# Altium footprint library FootPrintLib_6.PcbLib: 588 footprints (part 13 of 37)
Each footprint in its own frame and in the unit in brackets; x right, y up, seen from the top. Pads: shape width x height; smd on the part's side, far side on the other; paste and mask are expansions set on the pad; w line width, h text height; cw(c..) or ccw(c..) is an arc to the next point about the centre after c.
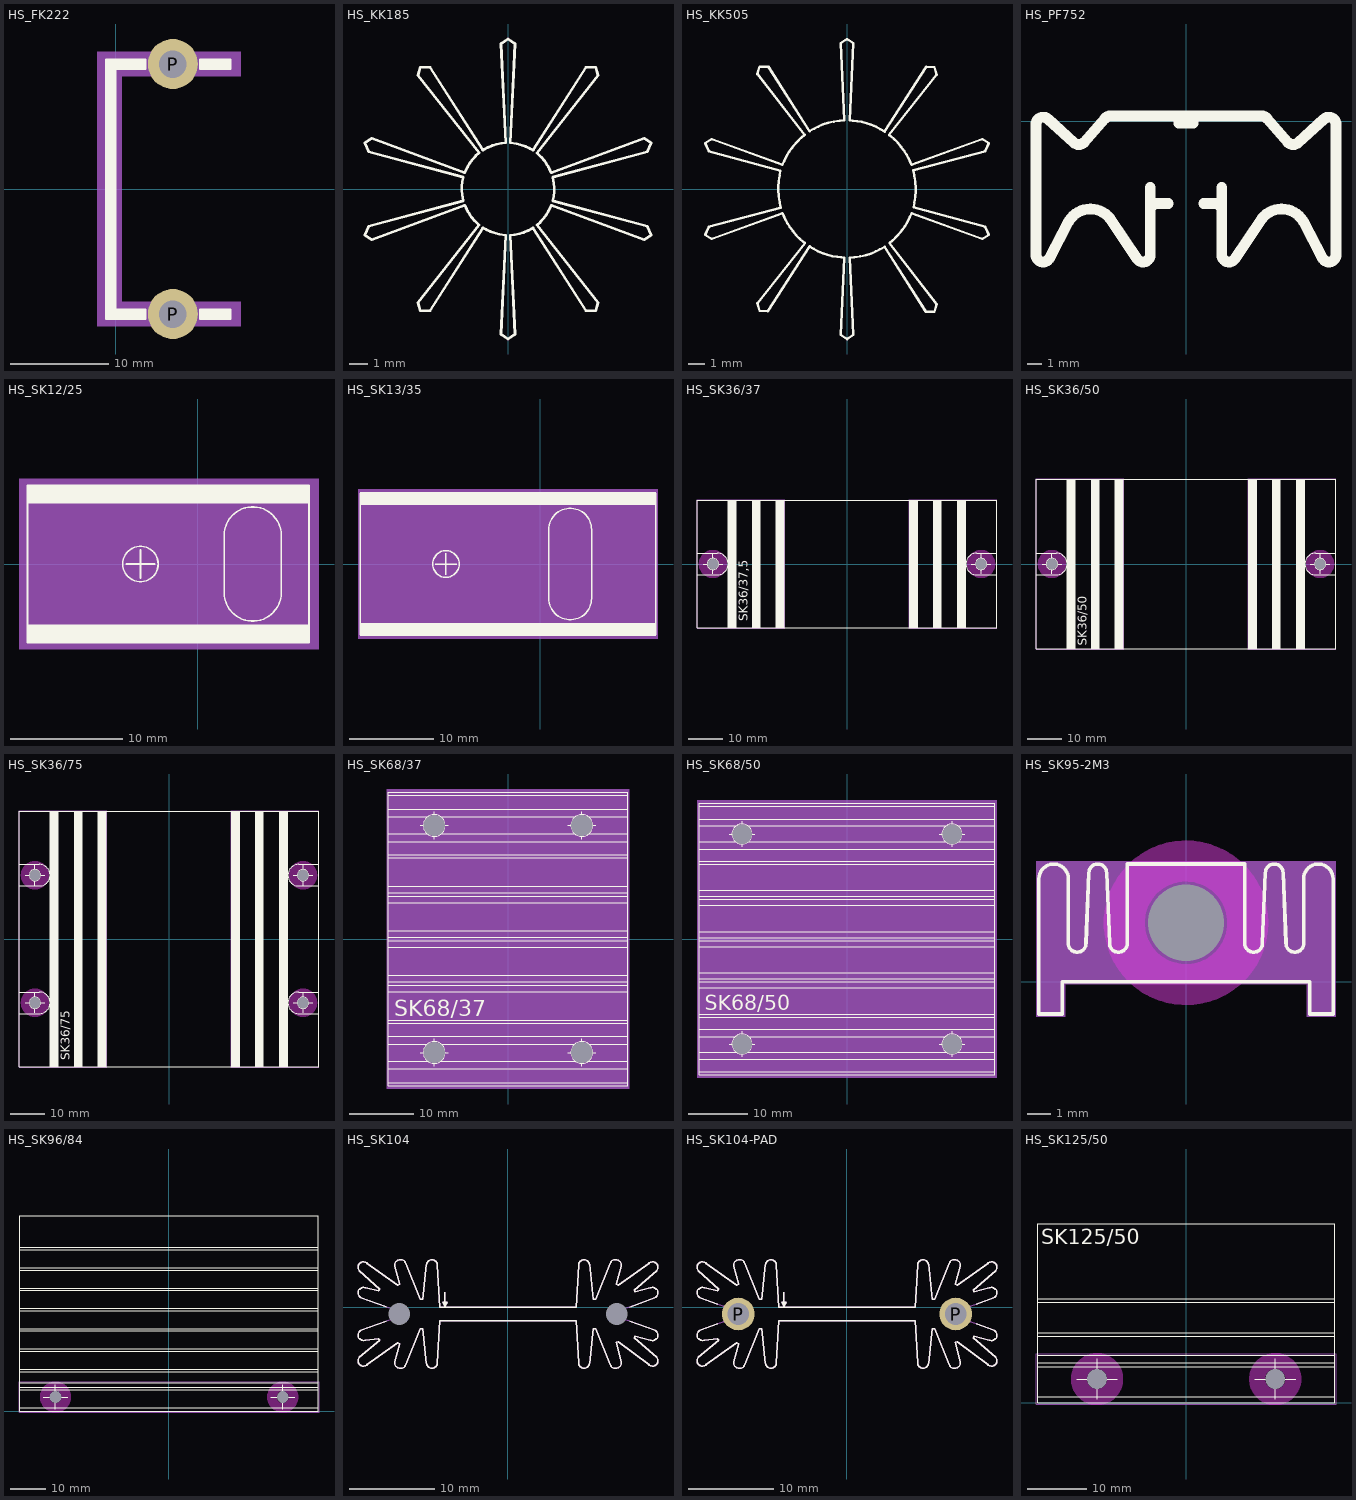
[diagram p12: the footprints below, top view; thin cyan lines are the x and y axes]

## HS_FK222 [mil]
pads (2):
  round 200 hole 110: P(228,-500) P(228,500)
Top Overlay:
  rectangle: -40,480 120,520
  rectangle: 335,480 460,520
  rectangle: 335,-520 460,-480
  rectangle: -40,-520 120,-480
  rectangle: -40,-480 0,480
  lines w6: -40,-520 120,-520 120,-480 0,-480 0,480 120,480 120,520 -40,520 -40,-520 ; 335,-520 460,-520 460,-480 335,-480 335,-520 ; 335,480 335,520 460,520 460,480 335,480
Mechanical 1:
  rectangle: -75,450 500,550
  rectangle: -75,-550 25,550
  rectangle: -75,-550 500,-450
Mechanical 2:
  rectangle: -40,-480 0,480
  rectangle: 120,-520 335,-480
  rectangle: -40,-520 120,-480
  rectangle: 335,-520 460,-480
  rectangle: 335,480 460,520
  rectangle: 120,480 335,520
  rectangle: -40,480 120,520
  lines w6: 120,-520 -40,-520 -40,520 120,520 ; 120,-520 120,-480 ; 120,-520 335,-520 ; 120,-480 0,-480 0,480 120,480 ; 120,-480 335,-480 ; 120,480 120,520 ; 120,480 335,480 ; 120,520 335,520 ; 335,-520 335,-480 ; 335,-520 460,-520 460,-480 335,-480 ; 335,480 460,480 460,520 335,520 ; 335,480 335,520

## HS_KK185 [mm]
Top Overlay:
  lines w0.152: -2.489,-0.66 -7.671,-2.057 -7.874,-2.54 -7.493,-2.794 -2.388,-0.889 ; -2.489,0.66 -7.671,2.057 -7.874,2.54 -7.493,2.794 -2.388,0.889 -2.235,1.194 -2.108,1.422 -1.93,1.651 -1.778,1.829 -1.6,1.981 ; -2.464,-0.635 -2.515,-0.33 -2.54,-0.076 -2.54,0.152 -2.515,0.406 -2.464,0.635 ; -2.362,-0.914 -2.311,-1.041 -2.235,-1.194 -2.108,-1.397 -2.007,-1.549 -1.854,-1.727 -1.6,-1.981 -4.953,-6.248 -4.826,-6.706 -4.293,-6.706 -1.397,-2.159 ; -1.6,2.007 -4.953,6.248 -4.826,6.706 -4.293,6.706 -1.397,2.159 ; -1.372,-2.134 -1.194,-2.235 -0.991,-2.337 -0.762,-2.413 -0.483,-2.489 -0.127,-2.54 -0.381,-8.001 0,-8.255 0.381,-8.001 0.127,-2.54 0.356,-2.515 0.635,-2.464 0.864,-2.388 1.118,-2.286 1.295,-2.184 1.372,-2.134 4.293,-6.706 4.826,-6.706 4.953,-6.248 1.6,-1.981 1.778,-1.829 1.93,-1.651 2.108,-1.422 2.235,-1.194 2.388,-0.889 7.493,-2.794 7.874,-2.54 7.671,-2.057 2.489,-0.66 ; -1.372,2.134 -1.295,2.184 -1.118,2.286 -0.864,2.388 -0.635,2.464 -0.356,2.515 -0.127,2.54 -0.381,8.001 0,8.255 0.381,8.001 0.127,2.54 0.483,2.489 0.762,2.413 0.991,2.337 1.194,2.235 1.372,2.134 ; 1.397,2.159 4.293,6.706 4.826,6.706 4.953,6.248 1.6,1.981 1.854,1.727 2.007,1.549 2.108,1.397 2.235,1.194 2.311,1.041 2.362,0.914 ; 2.388,0.889 7.493,2.794 7.874,2.54 7.671,2.057 2.489,0.66 ; 2.464,-0.635 2.515,-0.406 2.54,-0.152 2.54,0.076 2.515,0.33 2.464,0.635

## HS_KK505 [mm]
Top Overlay:
  lines w0.152: -8.636,-2.794 -8.433,-2.311 -4.039,-1.143 -4.064,-1.016 -4.115,-0.787 -4.166,-0.432 -4.191,-0.051 -4.191,0.152 -4.166,0.457 -4.115,0.813 -4.064,1.118 -8.433,2.311 -8.636,2.794 -8.255,3.048 -3.937,1.473 -3.835,1.702 -3.708,1.956 -3.531,2.261 -3.277,2.616 -3.048,2.87 -2.794,3.124 -2.591,3.302 -5.461,7.01 -5.334,7.468 -4.801,7.468 -2.286,3.531 -2.007,3.683 -1.753,3.81 -1.448,3.937 -1.143,4.039 -0.813,4.115 -0.432,4.166 -0.178,4.191 -0.381,8.89 0,9.144 0.381,8.89 0.178,4.191 0.356,4.166 0.61,4.14 0.889,4.089 1.194,4.013 1.473,3.912 1.778,3.785 2.032,3.658 2.286,3.505 4.826,7.442 5.334,7.417 5.461,6.96 2.565,3.302 2.845,3.073 3.099,2.819 3.302,2.565 3.48,2.337 3.632,2.083 3.759,1.854 3.861,1.626 3.937,1.473 8.255,3.048 8.636,2.794 8.433,2.311 4.039,1.143 4.064,1.016 4.115,0.787 4.166,0.432 4.191,0.051 4.191,-0.152 4.166,-0.457 4.115,-0.813 4.064,-1.118 8.433,-2.311 8.636,-2.794 8.255,-3.048 3.937,-1.473 3.835,-1.702 3.708,-1.956 3.531,-2.261 3.277,-2.616 3.048,-2.87 2.794,-3.124 2.591,-3.302 5.461,-7.01 5.334,-7.468 4.801,-7.468 2.286,-3.531 2.007,-3.683 1.753,-3.81 1.448,-3.937 1.143,-4.039 0.813,-4.115 0.432,-4.166 0.178,-4.191 0.381,-8.89 0,-9.144 -0.381,-8.89 -0.178,-4.191 -0.356,-4.166 -0.61,-4.14 -0.889,-4.089 -1.194,-4.013 -1.473,-3.912 -1.778,-3.785 -2.032,-3.658 -2.286,-3.505 -4.826,-7.442 -5.334,-7.417 -5.461,-6.96 -2.565,-3.302 -2.845,-3.073 -3.099,-2.819 -3.302,-2.565 -3.48,-2.337 -3.632,-2.083 -3.759,-1.854 -3.861,-1.626 -3.937,-1.473 -8.255,-3.048 -8.636,-2.794

## HS_PF752 [mm]
Top Overlay:
  lines w0.762: -9.801,0.148 ccw(c-10.16,-0.211) -10.668,-0.211 -10.668,-9.497 ccw(c-10.16,-9.497) -9.737,-9.779 -8.326,-7.084 ; -9.801,0.15 -7.979,-1.501 ; -8.326,-7.085 cw(c-6.808,-8.011) -5.406,-6.918 ; -7.979,-1.502 ccw(c-7.62,-1.143) -7.261,-1.502 ; -7.261,-1.501 -5.755,0.208 cw(c-5.373,-0.127) -5.374,0.381 5.374,0.381 cw(c5.374,-0.127) 5.755,0.209 7.261,-1.501 ; -5.406,-6.916 -3.471,-9.779 ccw(c-3.048,-9.497) -2.54,-9.497 -2.54,-4.699 ; -2.54,-6.35 cw(c-2.032,-6.35) -2.032,-5.842 -1.27,-5.842 ; -0.508,0.254 -0.508,-0.127 0.508,-0.127 0.508,0.254 ; 1.27,-5.842 2.032,-5.842 cw(c2.032,-6.35) 2.54,-6.35 ; 2.54,-4.699 2.54,-9.497 ccw(c3.048,-9.497) 3.471,-9.779 5.406,-6.916 ; 5.406,-6.918 cw(c6.808,-8.011) 8.326,-7.085 ; 7.261,-1.502 ccw(c7.62,-1.143) 7.979,-1.502 ; 7.979,-1.501 9.801,0.15 ; 8.326,-7.084 9.737,-9.779 ccw(c10.16,-9.497) 10.668,-9.497 10.668,-0.211 ccw(c10.16,-0.211) 9.801,0.148

## HS_SK12/25 [mm]
Top Overlay:
  circle w0.152: c-5.08,0 r1.575
  rectangle: -15.113,5.461 9.906,6.985
  rectangle: -15.113,-6.985 9.906,-5.461
  lines w0.152: -6.35,0 -3.81,0 ; -5.08,-1.27 -5.08,1.27 ; 2.362,2.515 2.362,-2.54 ccw(c4.902,-2.54) 7.442,-2.54 7.442,2.515 ; 2.362,2.54 cw(c4.902,2.54) 7.442,2.54 ; -15.113,-5.461 -15.113,-6.985 9.906,-6.985 9.906,-5.461 ; -15.113,-5.461 9.906,-5.461 ; -15.113,-5.461 -15.113,5.461 ; -15.113,5.461 -15.113,6.985 9.906,6.985 9.906,5.461 ; -15.113,5.461 9.906,5.461 ; 9.906,-5.461 9.906,5.461
Mechanical 1:
  rectangle: -15.875,-7.62 10.795,7.62

## HS_SK13/35 [mm]
Top Overlay:
  circle w0.152: c-11.176,0 r1.575
  rectangle: -21.336,6.985 13.716,8.509
  rectangle: -21.336,-8.509 13.716,-6.985
  lines w0.152: -21.336,-8.382 -21.336,8.382 ; -12.446,0 -9.906,0 ; -11.176,-1.27 -11.176,1.27 ; 13.716,-8.382 13.716,8.382 ; 1.016,-4.064 ccw(c3.556,-4.064) 6.096,-4.064 6.096,4.064 ccw(c3.556,4.064) 1.016,4.064 1.016,-4.064
Mechanical 1:
  rectangle: -21.59,-8.89 13.97,8.89

## HS_SK36/37 [mil]
pads (2):
  round 0 hole 130 unplated: MH(-1555,0) MH(1555,0)
Top Overlay:
  circle w6: c1555,0 r65
  circle w6: c-1555,0 r65
  rectangle: 1285,-739.97 1375,740
  rectangle: 1005,-739.97 1095,740
  rectangle: 730,-739.97 820,740
  rectangle: -820,-739.97 -730,740
  rectangle: -1095,-739.97 -1005,740
  rectangle: -1375,-739.97 -1285,740
  lines w6: -1665,0 -1440,0 ; -1555,-115 -1555,115 ; 1440,0 1665,0 ; 1555,-115 1555,115 ; -1735,-125 -1505,-125 ccw(c-1505,0) -1505,125 -1735,125 ; -1735,-125 -1735,125 ; -1735,-125 -1735,-739.97 -1375,-739.97 ; -1735,125 -1735,740 -1375,740 ; -1375,-739.97 -1375,740 ; -1375,-739.97 -1285,-739.97 ; -1375,740 -1285,740 ; -1285,-739.97 -1285,740 ; -1285,-739.97 -1095,-739.97 ; -1285,740 -1095,740 ; -1095,-739.97 -1095,740 ; -1095,-739.97 -1005,-739.97 ; -1095,740 -1005,740 ; -1005,-739.97 -1005,740 ; -1005,-739.97 -820,-739.97 ; -1005,740 -820,740 ; -820,-739.97 -820,740 ; -820,-739.97 -730,-739.97 ; -820,740 -730,740 ; -730,-739.97 -730,740 ; -730,-739.97 730,-739.97 ; -730,740 730,740 ; 730,-739.97 730,740 ; 730,-739.97 820,-739.97 ; 730,740 820,740 ; 820,-739.97 820,740 ; 820,-739.97 1005,-739.97 ; 820,740 1005,740 ; 1005,-739.97 1005,740 ; 1005,-739.97 1095,-739.97 ; 1005,740 1095,740 ; 1095,-739.97 1095,740 ; 1095,-739.97 1285,-739.97 ; 1095,740 1285,740 ; 1285,-739.97 1285,740 ; 1285,-739.97 1375,-739.97 ; 1285,740 1375,740 ; 1375,-739.97 1375,740 ; 1375,-739.97 1735,-739.97 1735,-125 ; 1375,740 1735,740 1735,125 ; 1735,-125 1505,-125 cw(c1505,0) 1505,125 1735,125 ; 1735,-125 1735,125
  text "SK36/37,5" at -1150,-664.97 h100
Keep-Out Layer:
  circle w100: c1555,0 r115
  circle w100: c-1555,0 r115
Mechanical 2:
  lines w5: -1740,-744.97 -725,-744.97 -725,745 -1740,745 -1740,-744.97 ; 725,-744.97 1740,-744.97 1740,745 725,745 725,-744.97

## HS_SK36/50 [mil]
pads (2):
  round 0 hole 130 unplated: MH(-1555,0) MH(1555,0)
Top Overlay:
  circle w6: c1555,0 r65
  circle w6: c-1555,0 r65
  rectangle: 1285,-985 1375,985
  rectangle: 1005,-985 1095,985
  rectangle: 730,-985 820,985
  rectangle: -820,-985 -730,985
  rectangle: -1095,-985 -1005,985
  rectangle: -1375,-985 -1285,985
  lines w6: -1665,0 -1440,0 ; -1555,-115 -1555,115 ; 1440,0 1665,0 ; 1555,-115 1555,115 ; -1735,-125 -1505,-125 ccw(c-1505,0) -1505,125 -1735,125 ; -1735,-125 -1735,125 ; -1735,-125 -1735,-985 -1375,-985 ; -1735,125 -1735,985 -1375,985 ; -1375,-985 -1375,985 ; -1375,-985 -1285,-985 ; -1375,985 -1285,985 ; -1285,-985 -1285,985 ; -1285,-985 -1095,-985 ; -1285,985 -1095,985 ; -1095,-985 -1095,985 ; -1095,-985 -1005,-985 ; -1095,985 -1005,985 ; -1005,-985 -1005,985 ; -1005,-985 -820,-985 ; -1005,985 -820,985 ; -820,-985 -820,985 ; -820,-985 -730,-985 ; -820,985 -730,985 ; -730,-985 -730,985 ; -730,-985 730,-985 ; -730,985 730,985 ; 730,-985 730,985 ; 730,-985 820,-985 ; 730,985 820,985 ; 820,-985 820,985 ; 820,-985 1005,-985 ; 820,985 1005,985 ; 1005,-985 1005,985 ; 1005,-985 1095,-985 ; 1005,985 1095,985 ; 1095,-985 1095,985 ; 1095,-985 1285,-985 ; 1095,985 1285,985 ; 1285,-985 1285,985 ; 1285,-985 1375,-985 ; 1285,985 1375,985 ; 1375,-985 1375,985 ; 1375,-985 1735,-985 1735,-125 ; 1375,985 1735,985 1735,125 ; 1735,-125 1505,-125 cw(c1505,0) 1505,125 1735,125 ; 1735,-125 1735,125
  text "SK36/50" at -1150,-950 h100
Keep-Out Layer:
  circle w100: c1555,0 r115
  circle w100: c-1555,0 r115
Mechanical 2:
  lines w5: -1740,-990 -725,-990 -725,990 -1740,990 -1740,-990 ; 725,-990 725,990 1740,990 1740,-990 725,-990

## HS_SK36/75 [mil]
pads (4):
  round 0 hole 130 unplated: MH(-1555,-740) MH(-1555,740) MH(1555,-740) MH(1555,740)
Top Overlay:
  circle w6: c-1555,740 r65
  circle w6: c1555,740 r65
  circle w6: c-1555,-740 r65
  circle w6: c1555,-740 r65
  rectangle: -1375,-1480 -1285,1480
  rectangle: -1095,-1480 -1005,1480
  rectangle: -820,-1480 -730,1480
  rectangle: 730,-1480 820,1480
  rectangle: 1005,-1480 1095,1480
  rectangle: 1285,-1480 1375,1480
  lines w6: -1665,-740 -1440,-740 ; -1665,740 -1440,740 ; -1555,-855 -1555,-625 ; -1555,625 -1555,855 ; 1440,-740 1665,-740 ; 1440,740 1665,740 ; 1555,-855 1555,-625 ; 1555,625 1555,855 ; -1735,-865 -1735,-1480 -1375,-1480 ; -1735,-865 -1735,-615 ; -1735,-865 -1505,-865 ccw(c-1505,-740) -1505,-615 -1735,-615 ; -1735,-615 -1735,615 ; -1735,615 -1735,865 ; -1735,615 -1505,615 ccw(c-1505,740) -1505,865 -1735,865 ; -1735,865 -1735,1480 -1375,1480 ; -1375,-1480 -1285,-1480 ; -1375,-1480 -1375,1480 ; -1375,1480 -1285,1480 ; -1285,-1480 -1095,-1480 ; -1285,-1480 -1285,1480 ; -1285,1480 -1095,1480 ; -1095,-1480 -1005,-1480 ; -1095,-1480 -1095,1480 ; -1095,1480 -1005,1480 ; -1005,-1480 -820,-1480 ; -1005,-1480 -1005,1480 ; -1005,1480 -820,1480 ; -820,-1480 -730,-1480 ; -820,-1480 -820,1480 ; -820,1480 -730,1480 ; -730,-1480 730,-1480 ; -730,-1480 -730,1480 ; -730,1480 730,1480 ; 730,-1480 820,-1480 ; 730,-1480 730,1480 ; 730,1480 820,1480 ; 820,-1480 1005,-1480 ; 820,-1480 820,1480 ; 820,1480 1005,1480 ; 1005,-1480 1095,-1480 ; 1005,-1480 1005,1480 ; 1005,1480 1095,1480 ; 1095,-1480 1285,-1480 ; 1095,-1480 1095,1480 ; 1095,1480 1285,1480 ; 1285,-1480 1375,-1480 ; 1285,-1480 1285,1480 ; 1285,1480 1375,1480 ; 1375,-1480 1735,-1480 1735,-865 ; 1375,-1480 1375,1480 ; 1375,1480 1735,1480 1735,865 ; 1735,-865 1735,-615 ; 1735,-865 1505,-865 cw(c1505,-740) 1505,-615 1735,-615 ; 1735,-615 1735,615 ; 1735,615 1735,865 ; 1735,615 1505,615 cw(c1505,740) 1505,865 1735,865
  text "SK36/75" at -1150,-1405 h100
Keep-Out Layer:
  circle w100: c1555,-740 r115
  circle w100: c1555,740 r115
  circle w100: c-1555,740 r115
  circle w100: c-1555,-740 r115
Mechanical 2:
  lines w5: -1740,-5 -1740,5 ; -725,-5 -725,5 ; 725,-5 725,5 ; 1740,-5 1740,5 ; -1740,5 -1740,1485 -725,1485 -725,5 ; -1740,5 -1740,-1485 -725,-1485 -725,5 ; 725,5 725,1485 1740,1485 1740,5 ; 725,5 725,-1485 1740,-1485 1740,5

## HS_SK68/37 [mil]
pads (4):
  round 0 hole 130 unplated: MH(-455,-700) MH(-455,700) MH(455,-700) MH(455,700)
Top Overlay:
  circle w6: c455,700 r67
  circle w6: c455,-700 r67
  circle w6: c-455,-700 r67
  circle w6: c-455,700 r67
  lines w2: -740,-885 740,-885 ; -740,-800 740,-800 ; -740,-600 740,-600 ; -740,-520 740,-520 ; -740,-285 740,-285 ; -740,-265 740,-265 ; -740,-10 740,-10 ; -740,10 740,10 ; -740,265 740,265 ; -740,285 740,285 ; -740,520 740,520 ; -740,600 740,600 ; -740,800 740,800 ; -740,885 740,885 ; -540,-700 -370,-700 ; -540,700 -370,700 ; -455,-785 -455,-615 ; -455,615 -455,785 ; 370,-700 540,-700 ; 370,700 540,700 ; 455,-785 455,-615 ; 455,615 455,785
  lines w6: -740,-755 740,-755 ; -740,-755 -740,-800 -740,-885 -740,-905 740,-905 740,-885 740,-800 740,-755 ; -740,-755 -740,-650 ; -740,-650 740,-650 ; -740,-650 -740,-600 -740,-520 -740,-500 ; -740,-500 740,-500 ; -740,-500 -740,-325 ; -740,-325 740,-325 ; -740,-325 -740,-285 -740,-265 -740,-225 ; -740,-225 740,-225 ; -740,-225 -740,-50 ; -740,-50 740,-50 ; -740,-50 -740,-10 -740,10 -740,50 ; -740,50 740,50 ; -740,50 -740,225 ; -740,225 -740,265 -740,285 -740,325 ; -740,225 740,225 ; -740,325 740,325 ; -740,325 -740,500 ; -740,500 -740,520 -740,600 -740,650 ; -740,500 740,500 ; -740,650 -740,755 ; -740,650 740,650 ; -740,755 740,755 ; -740,755 -740,800 -740,885 -740,905 740,905 740,885 740,800 740,755 ; 740,-755 740,-650 ; 740,-650 740,-600 740,-520 740,-500 ; 740,-500 740,-325 ; 740,-325 740,-285 740,-265 740,-225 ; 740,-225 740,-50 ; 740,-50 740,-10 740,10 740,50 ; 740,50 740,225 ; 740,225 740,265 740,285 740,325 ; 740,325 740,500 ; 740,500 740,520 740,600 740,650 ; 740,650 740,755
  text "SK68/37" at -700,-475 h100
Mechanical 1:
  rectangle: -750,-925 750,925
Mechanical 2:
  circle w0.31: c455,700 r150
  circle w0.31: c455,-700 r150
  circle w0.31: c-455,-700 r150
  circle w0.31: c-455,700 r150

## HS_SK68/50 [mil]
pads (4):
  round 0 hole 130 unplated: MH(-700,-700) MH(-700,700) MH(700,-700) MH(700,700)
Top Overlay:
  circle w2: c700,700 r67
  circle w2: c700,-700 r67
  circle w2: c-700,-700 r67
  circle w2: c-700,700 r67
  lines w2: -985,-885 985,-885 ; -985,-800 985,-800 ; -985,-600 985,-600 ; -985,-520 985,-520 ; -985,-285 985,-285 ; -985,-265 985,-265 ; -985,-10 985,-10 ; -985,10 985,10 ; -985,265 985,265 ; -985,285 985,285 ; -985,520 985,520 ; -985,600 985,600 ; -985,800 985,800 ; -985,885 985,885 ; -785,-700 -615,-700 ; -785,700 -615,700 ; -700,-785 -700,-615 ; -700,615 -700,785 ; 615,-700 785,-700 ; 615,700 785,700 ; 700,-785 700,-615 ; 700,615 700,785
  lines w6: -985,-755 985,-755 ; -985,-755 -985,-800 -985,-885 -985,-905 985,-905 985,-885 985,-800 985,-755 ; -985,-755 -985,-650 ; -985,-650 985,-650 ; -985,-650 -985,-600 -985,-520 -985,-500 ; -985,-500 985,-500 ; -985,-500 -985,-325 ; -985,-325 985,-325 ; -985,-325 -985,-285 -985,-265 -985,-225 ; -985,-225 985,-225 ; -985,-225 -985,-50 ; -985,-50 985,-50 ; -985,-50 -985,-10 -985,10 -985,50 ; -985,50 985,50 ; -985,50 -985,225 ; -985,225 985,225 ; -985,225 -985,265 -985,285 -985,325 ; -985,325 985,325 ; -985,325 -985,500 ; -985,500 985,500 ; -985,500 -985,520 -985,600 -985,650 ; -985,650 985,650 ; -985,650 -985,755 ; -985,755 985,755 ; -985,755 -985,800 -985,885 -985,905 985,905 985,885 985,800 985,755 ; 985,-755 985,-650 ; 985,-650 985,-600 985,-520 985,-500 ; 985,-500 985,-325 ; 985,-325 985,-285 985,-265 985,-225 ; 985,-225 985,-50 ; 985,-50 985,-10 985,10 985,50 ; 985,50 985,225 ; 985,225 985,265 985,285 985,325 ; 985,325 985,500 ; 985,500 985,520 985,600 985,650 ; 985,650 985,755
  text "SK68/50" at -950,-475 h100
Mechanical 1:
  rectangle: -1000,-925 1000,925
Mechanical 2:
  circle w0.31: c700,700 r150
  circle w0.31: c700,-700 r150
  circle w0.31: c-700,-700 r150
  circle w0.31: c-700,700 r150

## HS_SK95-2M3 [mil]
pads (1):
  round 0 hole 130 unplated: MH(0,100)
Top Overlay:
  lines w6: -250,-54.97 -250,175 cw(c-225,175) -200,175 -200,65 ccw(c-185,65) -170,65 -165,185 cw(c-150,185) -135,185 -130,65 ccw(c-115,65) -100,65 -100,200 100,200 100,65 ccw(c115,65) 130,65 135,185 cw(c150,185) 165,185 170,65 ccw(c185,65) 200,65 200,175 cw(c225,175) 250,175 250,-54.97 210,-54.97 210,0 -210,0 -210,-54.97 -250,-54.97
Keep-Out Layer:
  circle w70: c0,100 r105
Mechanical 1:
  rectangle: -255,-59.97 -205,205
  rectangle: 205,-59.97 255,205
  rectangle: -215,-5 215,205

## HS_SK96/84 [mil]
pads (2):
  round 0 hole 130 unplated: MH(-1256,157) MH(1263,157)
Top Overlay:
  lines w6: -1391,157 -1121,157 ; -1256,22 -1256,292 ; 1128,157 1398,157 ; 1263,22 1263,292 ; -1650,240 -1650,265 ; -1650,240 -1650,40 1657,40 1657,240 ; -1650,240 1657,240 ; -1650,265 -1650,440 ; -1650,265 1657,265 ; -1650,440 -1650,465 ; -1650,440 1657,440 ; -1650,465 -1650,665 ; -1650,465 1657,465 ; -1650,665 -1650,690 ; -1650,665 1657,665 ; -1650,690 -1650,890 ; -1650,690 1657,690 ; -1650,890 -1650,915 ; -1650,890 1657,890 ; -1650,915 -1650,1115 ; -1650,915 1657,915 ; -1650,1115 -1650,1140 ; -1650,1115 1657,1115 ; -1650,1140 -1650,1340 ; -1650,1140 1657,1140 ; -1650,1340 -1650,1365 ; -1650,1340 1657,1340 ; -1650,1365 -1650,1565 ; -1650,1365 1657,1365 ; -1650,1565 -1650,1590 ; -1650,1565 1657,1565 ; -1650,1590 -1650,1790 ; -1650,1590 1657,1590 ; -1650,1790 -1650,1815 ; -1650,1790 1657,1790 ; -1650,1815 -1650,2165 1657,2165 1657,1815 ; -1650,1815 1657,1815 ; 1657,240 1657,265 ; 1657,265 1657,440 ; 1657,265 1657,315 ; 1657,315 -1650,315 -1650,0 1657,0 1657,315 ; 1657,440 1657,465 ; 1657,465 1657,665 ; 1657,665 1657,690 ; 1657,690 1657,890 ; 1657,890 1657,915 ; 1657,915 1657,1115 ; 1657,1115 1657,1140 ; 1657,1140 1657,1340 ; 1657,1340 1657,1365 ; 1657,1365 1657,1565 ; 1657,1565 1657,1590 ; 1657,1590 1657,1790 ; 1657,1790 1657,1815
Keep-Out Layer:
  circle w106: c-1256,157 r120
  circle w106: c1263,157 r120
Mechanical 2:
  lines w5: -1655,-10 1665,-10 ; -1660,-10 -1660,325 ; -1660,-10 1665,-10 ; -1660,-10 -1660,325 ; -1660,-10 1665,-10 ; -1660,-10 -1660,325 ; -1660,325 1665,325 ; -1660,325 1665,325 ; -1660,325 1665,325 ; 1665,-10 1665,325 ; 1665,-10 1665,325 ; 1665,-10 1665,325

## HS_SK104 [mil]
pads (2):
  round 0 hole 100 unplated: MH(-500,-30) MH(500,-30)
Top Overlay:
  lines w6: -677,-105 -560.37,-62.33 ; -677,45 -560.37,2.33 ; -675.38,-104.16 ccw(c-665,-126.99) -655,-149.99 -596,-143 -591,-150 -685,-230 ccw(c-665,-245) -645,-260 ; -675.38,44.17 cw(c-665,67) -655,90 -596,78 -591,85 -685,170 cw(c-665,185) -645,200 ; -649,-264 -507,-162 -499,-166 -522,-250 ; -649,204 -507,102 -499,106 -522,190 ; -521.56,-248.57 ccw(c-495,-253) -470,-263 -404,-97 -393,-97 -375,-257 ; -521.56,188.58 cw(c-495,193.01) -470,203.01 -404,37 -393,37 -375,197 ; -375,-255 ccw(c-350,-255) -325,-255 -315,-60 315,-60 325,-255 ccw(c350,-255) 375,-255 ; -375,195 cw(c-350,195) -325,195 -315,0 315,0 325,195 cw(c350,195) 375,195 ; -290,70 -290,10 ; 375,-256 393,-97 404,-97 470,-263 ccw(c495,-253) 521.55,-248.57 ; 375,198 393,37 404,37 470,203 cw(c495,193.01) 521.55,188.58 ; 522,-250 499,-161 507,-157 649,-264 ; 522,190 499,106 507,102 649,204 ; 560.37,-62.33 677,-105 ; 560.42,2.19 676,45 ; 645,-260 ccw(c665,-245) 685,-230 581,-140 586,-133 655,-150 ccw(c665,-126.99) 675.38,-104.16 ; 645,200 cw(c665,185) 685,170 581,80 586,73 655,90 cw(c665,67) 675.38,44.17 ; -295,25 -290,10 ; -295,25 -285,25 ; -295,25 -300,25 -290,5 ; -290,5 -290,10 ; -290,5 -285,25 ; -290,5 -280,25 -285,25
Mechanical 2:
  lines w6: -677,-105 -595,-75 -535,-55 ccw(c-500,-30) -535,-5 -595,15 -677,45 ; -675.38,-104.16 ccw(c-665,-126.99) -655,-149.99 -596,-143 -591,-150 -685,-230 ccw(c-665,-245) -645,-260 ; -675.38,44.17 cw(c-665,67) -655,90 -596,78 -591,85 -685,170 cw(c-665,185) -645,200 ; -649,-264 -507,-162 -499,-166 -522,-250 ; -649,204 -507,102 -499,106 -522,190 ; -521.56,-248.57 ccw(c-495,-253) -470,-263 -404,-97 -393,-97 -375,-257 ; -521.56,188.58 cw(c-495,193.01) -470,203.01 -404,37 -393,37 -375,197 ; -375,-255 ccw(c-350,-255) -325,-255 -315,-60 315,-60 325,-255 ccw(c350,-255) 375,-255 ; -375,195 cw(c-350,195) -325,195 -315,0 315,0 325,195 cw(c350,195) 375,195 ; -290,70 -290,10 ; 375,-256 393,-97 404,-97 470,-263 ccw(c495,-253) 521.55,-248.57 ; 375,198 393,37 404,37 470,203 cw(c495,193.01) 521.55,188.58 ; 522,-250 499,-161 507,-157 649,-264 ; 522,190 499,106 507,102 649,204 ; 535,-55 595,-75 677,-105 ; 535.78,-53.85 cw(c500,-29.99) 535,-5 595,15 676,45 ; 645,-260 ccw(c665,-245) 685,-230 581,-140 586,-133 655,-150 ccw(c665,-126.99) 675.38,-104.16 ; 645,200 cw(c665,185) 685,170 581,80 586,73 655,90 cw(c665,67) 675.38,44.17 ; -295,25 -300,25 -290,5 ; -295,25 -285,25 ; -295,25 -290,10 ; -290,5 -280,25 -285,25 ; -290,5 -285,25 ; -290,5 -290,10

## HS_SK104-PAD [mil]
pads (2):
  round 150 hole 100: P(-500,-30) P(500,-30)
Top Overlay:
  lines w6: -677,-105 -595,-75 ; -677,45 -595,15 ; -675.38,-104.16 ccw(c-665,-126.99) -655,-149.99 -596,-143 -591,-150 -685,-230 ccw(c-665,-245) -645,-260 ; -675.38,44.17 cw(c-665,67) -655,90 -596,78 -591,85 -685,170 cw(c-665,185) -645,200 ; -649,-264 -507,-162 -499,-166 -522,-250 ; -649,204 -507,102 -499,106 -522,190 ; -521.56,-248.57 ccw(c-495,-253) -470,-263 -404,-97 -393,-97 -375,-257 ; -521.56,188.58 cw(c-495,193.01) -470,203.01 -404,37 -393,37 -375,197 ; -375,-255 ccw(c-350,-255) -325,-255 -315,-60 315,-60 325,-255 ccw(c350,-255) 375,-255 ; -375,195 cw(c-350,195) -325,195 -315,0 315,0 325,195 cw(c350,195) 375,195 ; -290,70 -290,10 ; 375,-256 393,-97 404,-97 470,-263 ccw(c495,-253) 521.55,-248.57 ; 375,198 393,37 404,37 470,203 cw(c495,193.01) 521.55,188.58 ; 522,-250 499,-161 507,-157 649,-264 ; 522,190 499,106 507,102 649,204 ; 595,-75 677,-105 ; 595,15 676,45 ; 645,-260 ccw(c665,-245) 685,-230 581,-140 586,-133 655,-150 ccw(c665,-126.99) 675.38,-104.16 ; 645,200 cw(c665,185) 685,170 581,80 586,73 655,90 cw(c665,67) 675.38,44.17 ; -295,25 -300,25 -290,5 ; -295,25 -285,25 ; -295,25 -290,10 ; -290,5 -280,25 -285,25 ; -290,5 -285,25 ; -290,5 -290,10
Mechanical 2:
  lines w6: -677,-105 -595,-75 -535,-55 ccw(c-500,-30) -535,-5 -595,15 -677,45 ; -675.38,-104.16 ccw(c-665,-126.99) -655,-149.99 -596,-143 -591,-150 -685,-230 ccw(c-665,-245) -645,-260 ; -675.38,44.17 cw(c-665,67) -655,90 -596,78 -591,85 -685,170 cw(c-665,185) -645,200 ; -649,-264 -507,-162 -499,-166 -522,-250 ; -649,204 -507,102 -499,106 -522,190 ; -521.56,-248.57 ccw(c-495,-253) -470,-263 -404,-97 -393,-97 -375,-257 ; -521.56,188.58 cw(c-495,193.01) -470,203.01 -404,37 -393,37 -375,197 ; -375,-255 ccw(c-350,-255) -325,-255 -315,-60 315,-60 325,-255 ccw(c350,-255) 375,-255 ; -375,195 cw(c-350,195) -325,195 -315,0 315,0 325,195 cw(c350,195) 375,195 ; -290,70 -290,10 ; 375,-256 393,-97 404,-97 470,-263 ccw(c495,-253) 521.55,-248.57 ; 375,198 393,37 404,37 470,203 cw(c495,193.01) 521.55,188.58 ; 522,-250 499,-161 507,-157 649,-264 ; 522,190 499,106 507,102 649,204 ; 535,-55 595,-75 677,-105 ; 535.78,-53.85 cw(c500,-29.99) 535,-5 595,15 676,45 ; 645,-260 ccw(c665,-245) 685,-230 581,-140 586,-133 655,-150 ccw(c665,-126.99) 675.38,-104.16 ; 645,200 cw(c665,185) 685,170 581,80 586,73 655,90 cw(c665,67) 675.38,44.17 ; -295,25 -290,10 ; -295,25 -285,25 ; -295,25 -300,25 -290,5 ; -290,5 -290,10 ; -290,5 -285,25 ; -290,5 -280,25 -285,25

## HS_SK125/50 [mil]
pads (2):
  round 0 hole 130 unplated: MH(-591,157) MH(588,157)
Top Overlay:
  lines w2: -726,157 -456,157 ; -591,22 -591,292 ; 453,157 723,157 ; 588,22 588,292
  lines w6: -985,240 982,240 ; -985,240 -985,40 982,40 982,240 ; -985,240 -985,265 ; -985,265 982,265 ; -985,265 -985,440 ; -985,440 982,440 ; -985,440 -985,465 ; -985,465 982,465 ; -985,465 -985,665 ; -985,665 982,665 ; -985,665 -985,690 ; -985,690 982,690 ; -985,690 -985,1185 982,1185 982,690 ; 982,240 982,265 ; 982,265 982,315 ; 982,265 982,440 ; 982,315 982,0 -985,0 -985,315 982,315 ; 982,440 982,465 ; 982,465 982,665 ; 982,665 982,690
  text "SK125/50" at -960,1050 h100
Keep-Out Layer:
  circle w106: c588,157 r120
  circle w106: c-591,157 r120
Mechanical 2:
  lines w5: -990,-10 990,-10 ; -995,-10 -995,325 ; -995,-10 990,-10 ; -995,-10 -995,325 ; -995,-10 990,-10 ; -995,-10 -995,325 ; -995,325 990,325 ; -995,325 990,325 ; -995,325 990,325 ; 990,-10 990,325 ; 990,-10 990,325 ; 990,-10 990,325